# EAGLE library part MC74HC164BDR2G (library fillament-winder)
Counter Shift Registers LOG CMOS SHIFT REG 8BIT
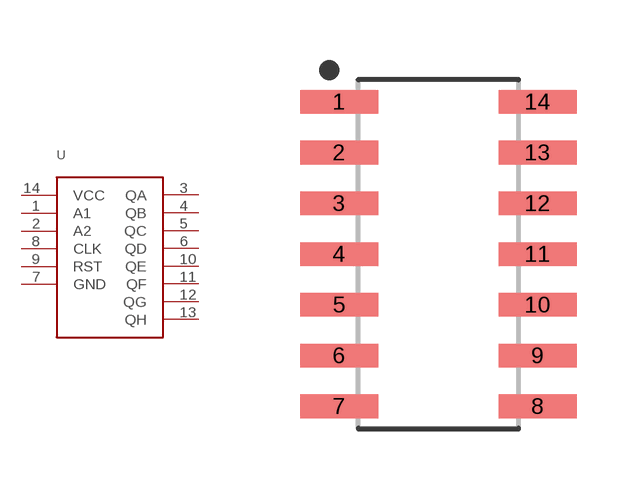
[diagram p3: symbol with the pads of SOIC127P600X175-14; footprint SOIC127P600X175-14]

Designator prefix U

## MC74HC164BDR2GMC74HC164BDR2G  [SOIC127P600X175-14]
1  A1
2  A2
3  QA
4  QB
5  QC
6  QD
7  GND
8  CLK
9  RST
10  QE
11  QF
12  QG
13  QH
14  VCC

## Footprint SOIC127P600X175-14 (pad centres in mm)
14-SOIC, 1.27 mm pitch, 6.00 mm span, 8.65 X 3.90 X 1.75 mm body 14-pin SOIC package with 1.27 mm pitch, 6.00 mm span with body size 8.65 X 3.90 X 1.75 mm
smd 1.952 x 0.589: 1 -2.482,3.81; 2 -2.482,2.54; 3 -2.482,1.27; 4 -2.482,0; 5 -2.482,-1.27; 6 -2.482,-2.54; 7 -2.482,-3.81; 8 2.482,-3.81; 9 2.482,-2.54; 10 2.482,-1.27; 11 2.482,0; 12 2.482,1.27; 13 2.482,2.54; 14 2.482,3.81